# Altium schematic symbol library Amphenol_HDMI.SchLib: 1 symbol
Pins are listed as number, name and electrical type; pins without a type are passive.

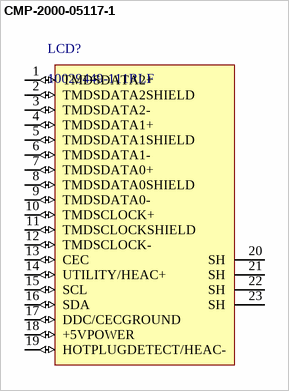
[diagram p0: symbol CMP-2000-05117-1]

## CMP-2000-05117-1
designator LCD?, comment 10029449-111RLF
Surface Mount Type A HDMI Receptacle without Flange, 19 Positions, 0.5 mm Pitch, -55 to 85 degC, RoHS, Tape and Reel; Manufacturer: FCI; Gender: Female; Number of Positions / Contacts: 19; Contact Rating: 0.5A; Voltage Rating: 40V; Insulation Resistance: 100MOhms; RoHS: Details; Datasheet URL: https://datasheet.ciiva.com/851/10029449-851120.pdf; Termination Style: SMD; Contact Plating: Gold; Housing Material: Resin; Product Type: HDMI; Color: Black; Number of Positions: 19; Mounting Style: SMD/SMT; Packaging: Reel; Brand: FCI; Manufacturer URL: http://www.fci.com/; Contact Material: CopperAlloy; Orientation: Horizontal; Factory Pack Quantity: 400; Operating Temperature Range: -55Cto+85C; Product Category: HDMI,Displayport&DVIConnectors; Datasheet Version: Rev. S, 06/2012
footprint FCI-10029449-111RLF_V (Footprint not found)
pins: 1 TMDSDATA2+ (io), 2 TMDSDATA2SHIELD (io), 3 TMDSDATA2- (io), 4 TMDSDATA1+ (io), 5 TMDSDATA1SHIELD (io), 6 TMDSDATA1- (io), 7 TMDSDATA0+ (io), 8 TMDSDATA0SHIELD (io), 9 TMDSDATA0- (io), 10 TMDSCLOCK+ (io), 11 TMDSCLOCKSHIELD (io), 12 TMDSCLOCK- (io), 13 CEC (io), 14 UTILITY/HEAC+ (io), 15 SCL (io), 16 SDA (io), 17 DDC/CECGROUND (io), 18 +5VPOWER (io), 19 HOTPLUGDETECT/HEAC- (io), 20 SH, 21 SH, 22 SH, 23 SH